# Altium footprint library ws2812_2020_breakout.PcbLib: 10 footprints
Each footprint in its own frame and in the unit in brackets; x right, y up, seen from the top. Pads: shape width x height; smd on the part's side, far side on the other; paste and mask are expansions set on the pad; w line width, h text height; cw(c..) or ccw(c..) is an arc to the next point about the centre after c.
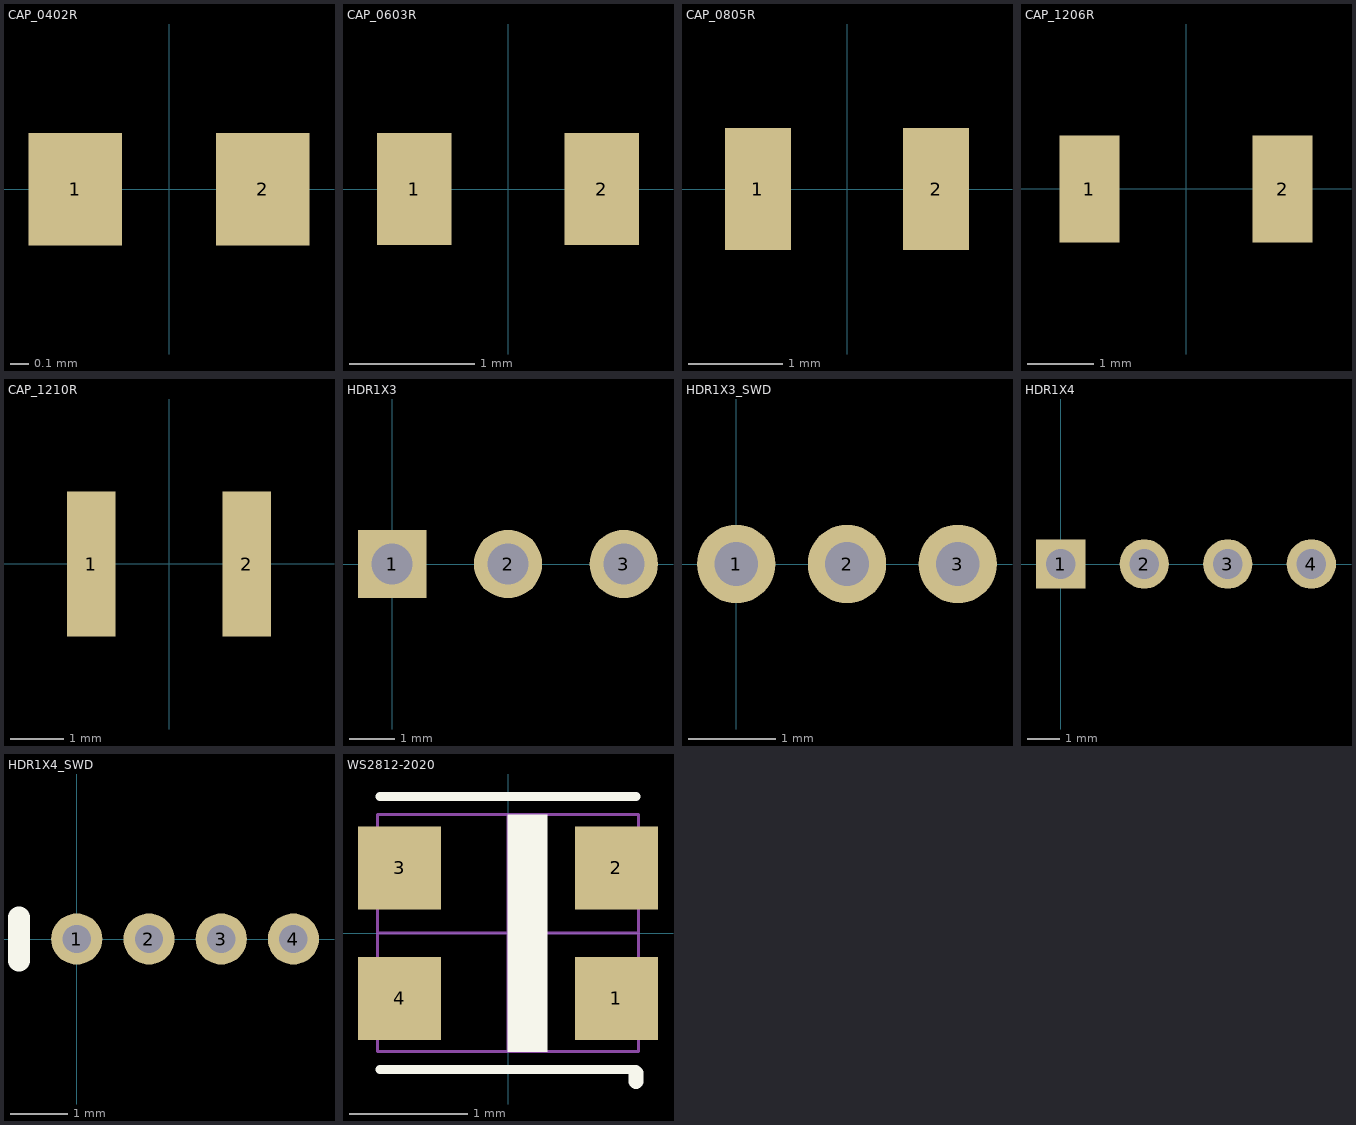
[diagram p0: the footprints below, top view; thin cyan lines are the x and y axes]

## CAP_0402R [mm] "Capacitor 0402 reflow soldering"
pads (2):
  rect 0.5x0.6 smd: 1(-0.5,0) 2(0.5,0)
3D body "CAP0402.stp": height 0.2, standoff 0, extent -0.5,-0.3 0.5,0.3

## CAP_0603R [mm] "capacitor 0603 reflow soldering"
pads (2):
  rect 0.6x0.9 smd: 1(-0.75,0) 2(0.75,0)
3D body "CAP0603.stp": height 0.3, standoff 0, extent -0.8,-0.4 0.8,0.4

## CAP_0805R [mm] "capacitor 0805 reflow soldering"
pads (2):
  rect 0.7x1.3 smd: 1(-0.95,0) 2(0.95,0)
3D body "CAP0805.stp": height 0.78, standoff 0, extent -1,-0.625 1,0.625

## CAP_1206R [mm] "capacitor 1206 reflow soldering"
pads (2):
  rect 0.9x1.6 smd: 1(-1.45,0) 2(1.45,0)
3D body "CAP1206.stp": height 1, standoff 0, extent -1.6,-0.8 1.6,0.8

## CAP_1210R [mm] "capacitor 1210 reflow soldering"
pads (2):
  rect 0.9x2.7 smd: 1(-1.45,0) 2(1.45,0)
3D body "CAP1210.stp": height 0.92, standoff -0.02, extent -1.6,-1.25 1.6,1.25

## HDR1X3 [mm] "Connector; Header; 3 Position"
pads (3):
  rect 1.5x1.5 hole 0.9: 1(0,0)
  round 1.5 hole 0.9: 2(2.54,0) 3(5.08,0)

## HDR1X3_SWD [mm] "Connector; Header; 1x3Position"
pads (3):
  round 0.9 hole 0.5 mask+0.076: 1(0,0) 2(1.27,0) 3(2.54,0)

## HDR1X4 [mm] "Connector; Header; 4 Position"
pads (4):
  rect 1.5x1.5 hole 0.9: 1(0,0)
  round 1.5 hole 0.9: 2(2.54,0) 3(5.08,0) 4(7.62,0)

## HDR1X4_SWD [mm] "Connector; Header; 1x4Position"
pads (4):
  round 0.9 hole 0.5 mask+0.076: 1(0,0) 2(1.27,0) 3(2.54,0) 4(3.81,0)
Top Overlay:
  lines w0.381: -1.016,-0.381 -1.016,0.381

## WS2812-2020 [mm]
height 0.84
pads (4):
  rect 0.7x0.7 smd: 1(0.915,-0.55) 2(0.915,0.55) 3(-0.915,0.55) 4(-0.915,-0.55)
Top Overlay:
  region: 0,-1 0,1 0.33,1 0.33,-1
  lines w0.076: -1.08,-1.15 1.08,-1.15 ; -1.08,1.15 1.08,1.15
  lines w0.127: 1.08,-1.25 1.08,-1.18
Mechanical 1:
  lines w0.025: -1.1,0 1.1,0 ; 0,-1 0,1 ; -1.1,-1 -1.1,1 1.1,1 1.1,-1 -1.1,-1
3D body: height 0.6, standoff 0.28, extent -0.5,0 0.5,0.5
3D body: height 0.84, standoff 0, extent -0.725,-1 0.725,1
3D body: height 0.28, standoff 0, extent -1.1,-1 1.1,1